# Altium footprint library ConnFoot.PcbLib: 1 footprints
Each footprint in its own frame and in the unit in brackets; x right, y up, seen from the top. Pads: shape width x height; smd on the part's side, far side on the other; paste and mask are expansions set on the pad; w line width, h text height; cw(c..) or ccw(c..) is an arc to the next point about the centre after c.
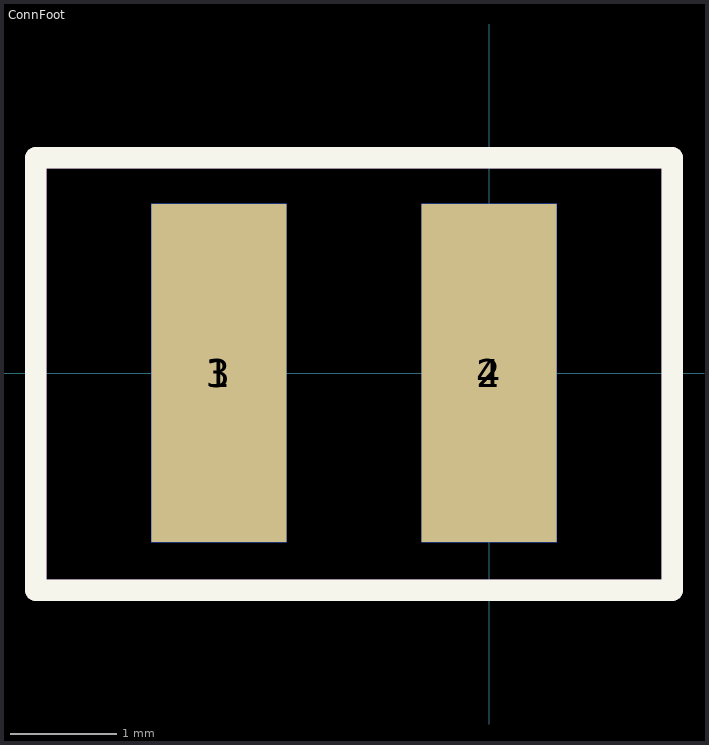
[diagram p0: the footprint, top view; thin cyan lines are the x and y axes]

## ConnFoot [mil]
pads (4):
  rect 50x125.2 smd: 1(-100,0) 2(0,0)
  rect 50x125.2 smd far side: 3(-100,0) 4(0,0)
Top Overlay:
  lines w7.87: -167.72,-80.36 67.72,-80.36 67.72,79.64 -167.72,79.65 -167.72,-80.36
Bottom Overlay:
  lines w7.87: -167.72,-80.36 -167.72,79.64 67.72,79.65 67.72,-80.36 -167.72,-80.36
Bottom Paste:
  region: -75,62.6 -125,62.6 -125,-62.6 -75,-62.6
  region: 25,62.6 -25,62.6 -25,-62.6 25,-62.6
Bottom Solder:
  region: -72.99,64.6 -127.01,64.6 -127.01,-64.61 -72.99,-64.61
  region: 27.01,64.6 -27.01,64.6 -27.01,-64.61 27.01,-64.61
Mechanical 1:
  lines w7.87: 67.72,-80.36 -167.72,-80.36 -167.72,79.64 67.72,79.65 ; 67.72,-80.36 67.72,79.64 ; 67.72,-80.36 67.72,79.64